# Altium footprint library SM_L_8040.PcbLib: 1 footprints
Each footprint in its own frame and in the unit in brackets; x right, y up, seen from the top. Pads: shape width x height; smd on the part's side, far side on the other; paste and mask are expansions set on the pad; w line width, h text height; cw(c..) or ccw(c..) is an arc to the next point about the centre after c.
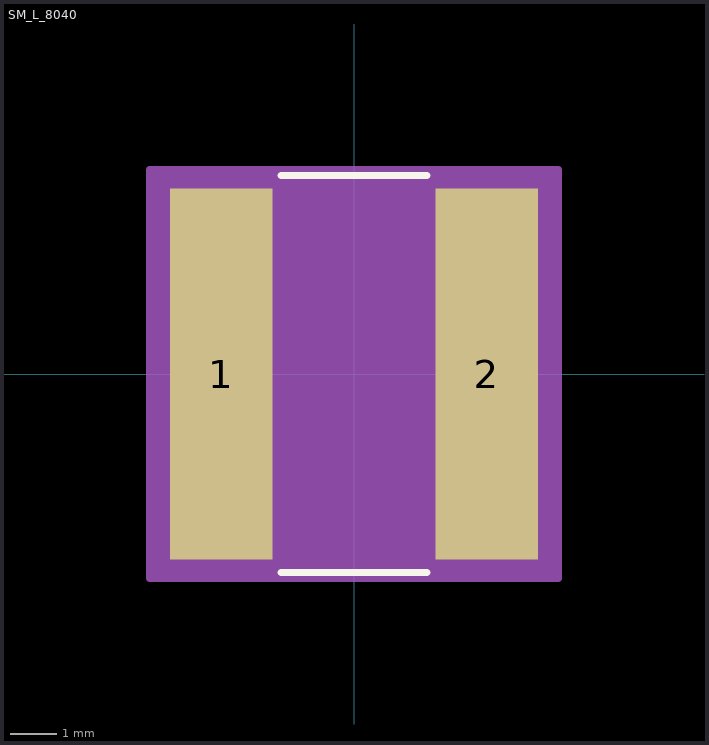
[diagram p0: the footprint, top view; thin cyan lines are the x and y axes]

## SM_L_8040 [mil]
height 4
pads (2):
  rect 87x315 smd paste+0 mask+0: 1(-112.5,0) 2(112.5,0)
Top Overlay:
  lines w6: -61.89,-168.5 61.89,-168.5 ; -61.89,168.5 61.89,168.5
Mechanical 13:
  lines w1: -163.5,-81.75 -81.75,-163.5 81.75,-163.5 163.5,-81.75 163.5,81.75 81.75,163.5 -81.75,163.5 -163.5,81.75 -163.5,-81.75
  text "*" at -156,-50 h50
Mechanical 15:
  region: 173.5,-173.5 -173.5,-173.5 -173.5,173.5 173.5,173.5
  lines w6: -173.5,-173.5 173.5,-173.5 173.5,173.5 -173.5,173.5 -173.5,-173.5
3D body "srn8040.stp": height 157.48, standoff 0, extent -157.48,-157.48 157.48,157.48
3D body: height 10, standoff 0, extent 0,0 10,10